# EAGLE library part LAN8720 (library microchip)
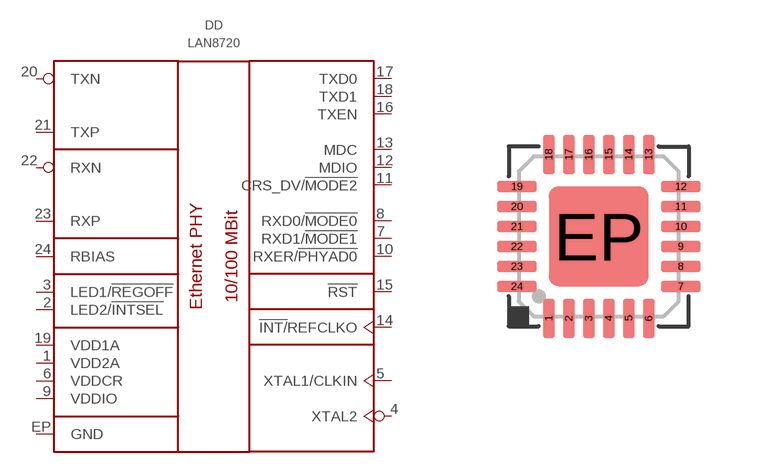
[diagram p5: symbol with the pads of SQFN-24; footprint SQFN-24]

Designator prefix DD

## LAN8720A  [SQFN-24]
1  VDD2A  pwr
2  LED2/!INTSEL
3  LED1/!REGOFF
4  XTAL2  out
5  XTAL1/CLKIN  out
6  VDDCR  pwr
7  RXD1/!MODE1  out
8  RXD0/!MODE0  out
9  VDDIO  pwr
10  RXER/!PHYAD0  out
11  CRS_DV/!MODE2  out
12  MDIO  in
13  MDC  in
14  !INT/!REFCLKO  in
15  !RST  in
16  TXEN  in
17  TXD0  in
18  TXD1  in
19  VDD1A  pwr
20  TXN  out
21  TXP  out
22  RXN  in
23  RXP  in
24  RBIAS  pas
EP  GND  pwr

## LAN8720AI  [SQFN-24]
Pads as for SQFN-24

## Footprint SQFN-24 (pad centres in mm)
smd 0.28 x 1: 1 -1.25,-2.05; 2 -0.75,-2.05; 3 -0.25,-2.05; 4 0.25,-2.05; 5 0.75,-2.05; 6 1.25,-2.05; 13 1.25,2.05; 14 0.75,2.05; 15 0.25,2.05; 16 -0.25,2.05; 17 -0.75,2.05; 18 -1.25,2.05
smd 1 x 0.28: 7 2.05,-1.25; 8 2.05,-0.75; 9 2.05,-0.25; 10 2.05,0.25; 11 2.05,0.75; 12 2.05,1.25; 19 -2.05,1.25; 20 -2.05,0.75; 21 -2.05,0.25; 22 -2.05,-0.25; 23 -2.05,-0.75; 24 -2.05,-1.25
smd 2.5 x 2.5: EP 0,0